# Altium footprint library pedals-diodes.PCBLIB: 13 footprints
Each footprint in its own frame and in the unit in brackets; x right, y up, seen from the top. Pads: shape width x height; smd on the part's side, far side on the other; paste and mask are expansions set on the pad; w line width, h text height; cw(c..) or ccw(c..) is an arc to the next point about the centre after c.
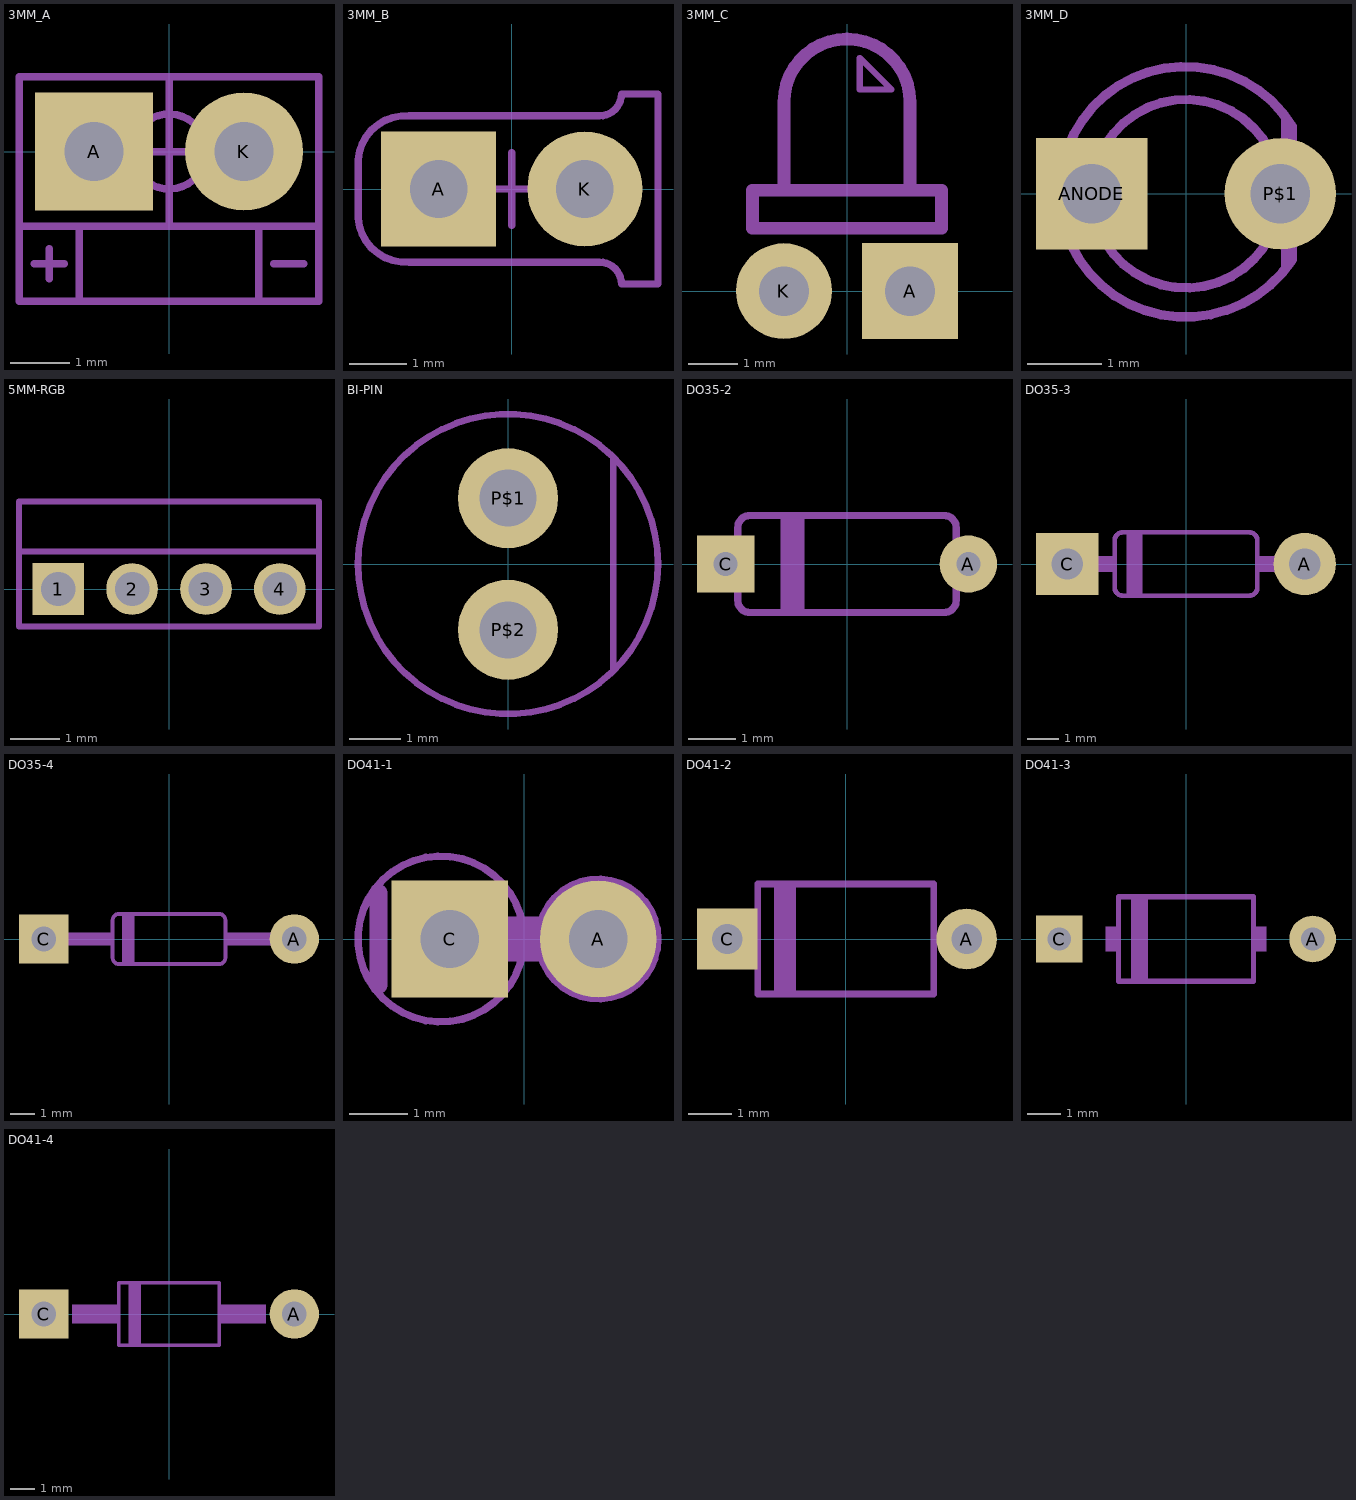
[diagram p0: the footprints below, top view; thin cyan lines are the x and y axes]

## 3MM_A [mm]
pads (2):
  rect 2x2 hole 1: A(-1.27,0)
  round 2 hole 1: K(1.27,0)
Mechanical 2:
  lines w0.127: -2.286,-1.905 -1.778,-1.905 ; -2.032,-2.159 -2.032,-1.651 ; 1.778,-1.905 2.286,-1.905 ; -2.54,-1.27 -2.54,-2.54 -1.524,-2.54 ; -2.54,-1.27 -2.54,1.27 0,1.27 ; -2.54,-1.27 -1.524,-1.27 ; -1.524,-2.54 -1.524,-1.27 ; -1.524,-2.54 1.524,-2.54 ; -1.524,-1.27 0,-1.27 ; 0,-1.27 0,1.27 ; 0,-1.27 1.524,-1.27 ; 0,1.27 2.54,1.27 2.54,-1.27 ; 1.524,-2.54 1.524,-1.27 ; 1.524,-2.54 2.54,-2.54 2.54,-2.159 2.54,-2.032 2.54,-1.778 2.54,-1.27 ; 1.524,-1.27 2.54,-1.27
Mechanical 3:
  circle w0.127: c0,0 r0.635
  lines w0.127: -0.635,0 0.635,0 ; 0,-0.635 0,0.635 ; -2.54,-1.27 -2.54,-2.54 -1.524,-2.54 ; -2.54,-1.27 -2.54,1.27 0,1.27 ; -2.54,-1.27 -1.524,-1.27 ; -1.524,-2.54 -1.524,-1.27 ; -1.524,-2.54 -1.524,-1.27 ; -1.524,-2.54 1.524,-2.54 ; -1.524,-1.27 0,-1.27 ; 0,-1.27 0,1.27 ; 0,-1.27 1.524,-1.27 ; 0,1.27 2.54,1.27 2.54,-1.27 ; 1.524,-2.54 1.524,-1.27 ; 1.524,-2.54 2.54,-2.54 2.54,-2.159 2.54,-1.27 ; 1.524,-1.27 2.54,-1.27

## 3MM_B [mm]
pads (2):
  rect 2x2 hole 1: A(-1.27,0)
  round 2 hole 1: K(1.27,0)
Mechanical 2:
  lines w0.127: -2.667,-0.508 ccw(c-1.841,-0.445) -1.778,-1.27 1.524,-1.27 cw(c1.524,-1.651) 1.905,-1.651 2.54,-1.651 2.54,1.651 1.905,1.651 cw(c1.524,1.651) 1.524,1.27 -1.778,1.27 ccw(c-1.841,0.445) -2.667,0.508 -2.667,-0.508
Mechanical 3:
  lines w0.127: -0.635,0 0.635,0 ; 0,-0.635 0,0.635 ; -2.667,-0.508 -2.667,0.508 cw(c-1.841,0.445) -1.778,1.27 1.524,1.27 ccw(c1.524,1.651) 1.905,1.651 2.54,1.651 2.54,-1.651 1.905,-1.651 ccw(c1.524,-1.651) 1.524,-1.27 -1.778,-1.27 cw(c-1.841,-0.445) -2.667,-0.508

## 3MM_C [mil]
pads (2):
  rect 76x76 hole 39.37: A(50,0)
  round 76 hole 39.37: K(-50,0)
Mechanical 2:
  lines w5: 10,160 35,160 10,185 10,160
  lines w10: -50,80 -75,80 -75,50 -50,50 50,50 75,50 75,80 50,80 ; -50,80 50,80 ; -50,80 -50,150 cw(c0,150) 0,200 cw(c0,150) 50,150 50,80

## 3MM_D [mil]
pads (2):
  rect 59.06x59.06 hole 31.5: ANODE(-50,0)
  round 59.06 hole 31.5: P$1(50,0)
Mechanical 2:
  circle w5: c0,0 r50
  circle w5: c0,0 r50
  lines w5: 53,-39 53,40 ; -38,-54 ccw(c-0.32,2.6) 56.29,-35.08 ; -38,-54 cw(c-0.45,0.9) 56.29,35.63 ; -38,-54 ccw(c-0.32,2.6) 56.29,-35.08 ; -38,-54 cw(c-0.45,0.9) 56.29,35.63 ; 56.29,-35.08 56.29,35.63

## 5MM-RGB [mm]
pads (4):
  rect 1.05x1.05 hole 0.7: 1(-2.25,0)
  round 1.05 hole 0.7: 2(-0.75,0) 3(0.75,0) 4(2.25,0)
Mechanical 2:
  lines w0.127: -3.048,0.762 -3.048,1.778 3.048,1.778 3.048,0.762 ; -3.048,0.762 -3.048,-0.762 3.048,-0.762 3.048,0.762 ; -3.048,0.762 3.048,0.762

## BI-PIN [mil]
pads (2):
  round 76 hole 43.31: P$1(0,50) P$2(0,-50)
Mechanical 2:
  circle w5: c0,0 r114.02
  lines w5: 80,-80 80,80

## DO35-2 [mm]
pads (2):
  round 1.2 hole 0.5: A(2.54,0)
  rect 1.2x1.2 hole 0.5: C(-2.54,0)
Mechanical 2:
  rectangle: -1.397,-1.016 -0.889,1.016
  lines w0.152: -2.286,-0.762 ccw(c-2.032,-0.762) -2.032,-1.016 2.032,-1.016 ccw(c2.032,-0.762) 2.286,-0.762 2.286,0.762 ccw(c2.032,0.762) 2.032,1.016 -2.032,1.016 ccw(c-2.032,0.762) -2.286,0.762 -2.286,-0.762

## DO35-3 [mm]
pads (2):
  round 2 hole 1: A(3.81,0)
  rect 2x2 hole 1: C(-3.81,0)
Mechanical 2:
  rectangle: -1.905,-1.016 -1.397,1.016
  rectangle: 2.286,-0.254 2.921,0.254
  rectangle: -2.921,-0.254 -2.286,0.254
  lines w0.152: -2.286,-0.762 ccw(c-2.032,-0.762) -2.032,-1.016 2.032,-1.016 ccw(c2.032,-0.762) 2.286,-0.762 2.286,0.762 ccw(c2.032,0.762) 2.032,1.016 -2.032,1.016 ccw(c-2.032,0.762) -2.286,0.762 -2.286,-0.762

## DO35-4 [mm]
pads (2):
  round 2 hole 1: A(5.08,0)
  rect 2x2 hole 1: C(-5.08,0)
Mechanical 2:
  rectangle: -1.905,-1.016 -1.397,1.016
  rectangle: 2.286,-0.254 4.191,0.254
  rectangle: -4.191,-0.254 -2.286,0.254
  lines w0.152: -2.286,-0.762 ccw(c-2.032,-0.762) -2.032,-1.016 2.032,-1.016 ccw(c2.032,-0.762) 2.286,-0.762 2.286,0.762 ccw(c2.032,0.762) 2.032,1.016 -2.032,1.016 ccw(c-2.032,0.762) -2.286,0.762 -2.286,-0.762

## DO41-1 [mm]
pads (2):
  round 2 hole 1: A(1.27,0)
  rect 2x2 hole 1: C(-1.27,0)
Mechanical 2:
  circle w0.127: c1.27,0 r1.024
  circle w0.127: c-1.422,0 r1.42
  lines w0.127: -0.025,-0.254 0.279,-0.254 ; -0.025,0.254 0.279,0.254
  lines w0.305: -2.489,-0.787 -2.489,0.787
Mechanical 18:
  lines w0.762: -1.143,0 1.27,0

## DO41-2 [mil]
pads (2):
  round 55.12 hole 27.56: A(110,0)
  rect 55.12x55.12 hole 27.56: C(-107.5,0)
Mechanical 2:
  rectangle: -65,-50 -45,50
  lines w6: -80,-50 -80,50 80,50 80,-50 -80,-50

## DO41-3 [mm]
pads (2):
  round 1.4 hole 0.7: A(3.81,0)
  rect 1.4x1.4 hole 0.7: C(-3.81,0)
Mechanical 2:
  rectangle: -1.651,-1.27 -1.143,1.27
  rectangle: -2.413,-0.381 -2.032,0.381
  rectangle: 2.032,-0.381 2.413,0.381
  lines w0.152: -2.032,-1.27 2.032,-1.27 2.032,1.27 -2.032,1.27 -2.032,-1.27

## DO41-4 [mm]
pads (2):
  round 2 hole 1: A(5.08,0)
  rect 2x2 hole 1: C(-5.08,0)
Mechanical 2:
  rectangle: -1.651,-1.27 -1.143,1.27
  rectangle: 2.032,-0.381 3.937,0.381
  rectangle: -3.937,-0.381 -2.032,0.381
  lines w0.152: -2.032,-1.27 2.032,-1.27 2.032,1.27 -2.032,1.27 -2.032,-1.27